# Altium schematic symbol library SCH - MCU - ATTINY - MICROCHIP ATTINY20-SSU SOIC14.SchLib: 1 symbol
Pins are listed as number, name and electrical type; pins without a type are passive.

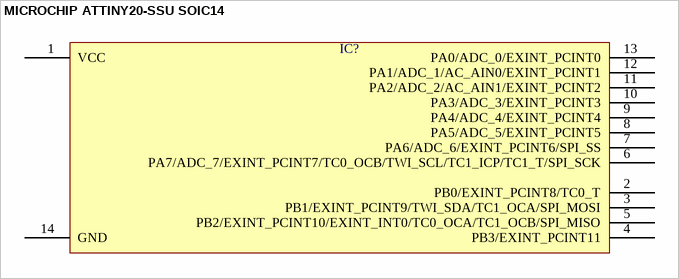
[diagram p0: symbol MICROCHIP ATTINY20-SSU SOIC14]

## MICROCHIP ATTINY20-SSU SOIC14
designator IC?  (value not drawn)
pins: 1 VCC, 2 PB0/EXINT_PCINT8/TC0_T, 3 PB1/EXINT_PCINT9/TWI_SDA/TC1_OCA/SPI_MOSI, 4 PB3/EXINT_PCINT11, 5 PB2/EXINT_PCINT10/EXINT_INT0/TC0_OCA/TC1_OCB/SPI_MISO, 6 PA7/ADC_7/EXINT_PCINT7/TC0_OCB/TWI_SCL/TC1_ICP/TC1_T/SPI_SCK, 7 PA6/ADC_6/EXINT_PCINT6/SPI_SS, 8 PA5/ADC_5/EXINT_PCINT5, 9 PA4/ADC_4/EXINT_PCINT4, 10 PA3/ADC_3/EXINT_PCINT3, 11 PA2/ADC_2/AC_AIN1/EXINT_PCINT2, 12 PA1/ADC_1/AC_AIN0/EXINT_PCINT1, 13 PA0/ADC_0/EXINT_PCINT0, 14 GND